# Altium schematic symbol library NMOS_Vishay_SI4848DY-T1-E3.SchLib: 1 symbol
Pins are listed as number, name and electrical type; pins without a type are passive.

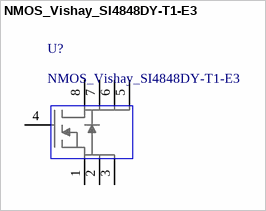
[diagram p0: symbol NMOS_Vishay_SI4848DY-T1-E3]

## NMOS_Vishay_SI4848DY-T1-E3
designator U?
pins: 1, 2, 3, 4, 5, 6, 7, 8